# EAGLE library part CON_60 (library FC_connector_2)
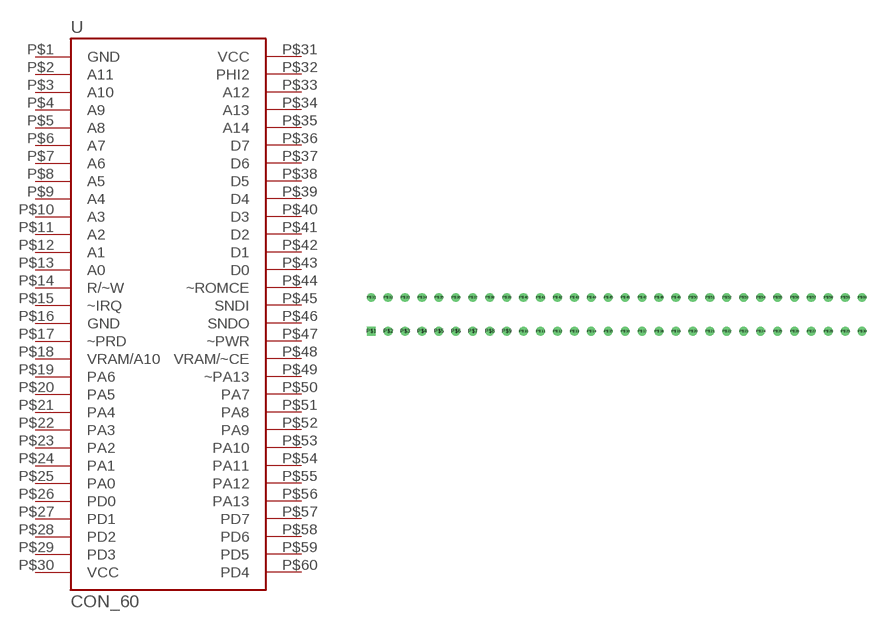
[diagram p2: symbol with the pads of CON_60; footprint CON_60]

Designator prefix -

## CON_60  [CON_60]
P$1  GND  sup
P$2  A11  out
P$3  A10  out
P$4  A9  out
P$5  A8  out
P$6  A7  out
P$7  A6  out
P$8  A5  out
P$9  A4  out
P$10  A3  out
P$11  A2  out
P$12  A1  out
P$13  A0  out
P$14  R/~W  out
P$15  ~IRQ  out
P$16  GND  sup
P$17  ~PRD  out
P$18  VRAM/A10  in
P$19  PA6  out
P$20  PA5  out
P$21  PA4  out
P$22  PA3  out
P$23  PA2  out
P$24  PA1  out
P$25  PA0  out
P$26  PD0
P$27  PD1
P$28  PD2
P$29  PD3
P$30  VCC  sup
P$31  VCC  sup
P$32  PHI2  out
P$33  A12  out
P$34  A13  out
P$35  A14  out
P$36  D7  out
P$37  D6  out
P$38  D5  out
P$39  D4  out
P$40  D3  out
P$41  D2  out
P$42  D1  out
P$43  D0  out
P$44  ~ROMCE  out
P$45  SNDI  out
P$46  SNDO  in
P$47  ~PWR  out
P$48  VRAM/~CE  in
P$49  ~PA13  out
P$50  PA7  out
P$51  PA8  out
P$52  PA9  out
P$53  PA10  out
P$54  PA11  out
P$55  PA12  out
P$56  PA13  out
P$57  PD7
P$58  PD6
P$59  PD5
P$60  PD4

## Footprint CON_60 (pad centres in mm)
drill 0.8 square: P$1 -36.83,-2.54
drill 0.8: P$2 -34.29,-2.54; P$3 -31.75,-2.54; P$4 -29.21,-2.54; P$5 -26.67,-2.54; P$6 -24.13,-2.54; P$7 -21.59,-2.54; P$8 -19.05,-2.54; P$9 -16.51,-2.54; P$10 -13.97,-2.54; P$11 -11.43,-2.54; P$12 -8.89,-2.54; P$13 -6.35,-2.54; P$14 -3.81,-2.54; P$15 -1.27,-2.54; P$16 1.27,-2.54; P$17 3.81,-2.54; P$18 6.35,-2.54; P$19 8.89,-2.54; P$20 11.43,-2.54; P$21 13.97,-2.54; P$22 16.51,-2.54; P$23 19.05,-2.54; P$24 21.59,-2.54; P$25 24.13,-2.54; P$26 26.67,-2.54; P$27 29.21,-2.54; P$28 31.75,-2.54; P$29 34.29,-2.54; P$30 36.83,-2.54; P$31 -36.83,2.54; P$32 -34.29,2.54; P$33 -31.75,2.54; P$34 -29.21,2.54; P$35 -26.67,2.54; P$36 -24.13,2.54; P$37 -21.59,2.54; P$38 -19.05,2.54; P$39 -16.51,2.54; P$40 -13.97,2.54; P$41 -11.43,2.54; P$42 -8.89,2.54; P$43 -6.35,2.54; P$44 -3.81,2.54; P$45 -1.27,2.54; P$46 1.27,2.54; P$47 3.81,2.54; P$48 6.35,2.54; P$49 8.89,2.54; P$50 11.43,2.54; P$51 13.97,2.54; P$52 16.51,2.54; P$53 19.05,2.54; P$54 21.59,2.54; P$55 24.13,2.54; P$56 26.67,2.54; P$57 29.21,2.54; P$58 31.75,2.54; P$59 34.29,2.54; P$60 36.83,2.54